# Altium schematic symbol library AD1937.SchLib: 1 symbol
Pins are listed as number, name and electrical type; pins without a type are passive.

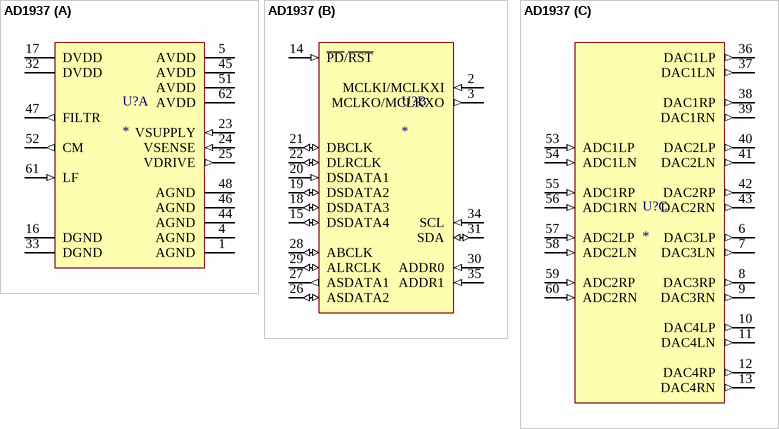
[diagram p0: symbol AD1937]

## AD1937
designator U?
AD1937; digikey: AD1937WBSTZ-ND
footprint AD1937 (Four ADCs/Eight DACs with PLL,  192 kHz, 24-Bit Codec)
part A pins: 1 AGND (power), 4 AGND (power), 5 AVDD (power), 16 DGND (power), 17 DVDD (power), 23 VSUPPLY (in), 24 VSENSE (in), 25 VDRIVE (out), 32 DVDD (power), 33 DGND (power), 44 AGND (power), 45 AVDD (power), 46 AGND (power), 47 FILTR (out), 48 AGND (power), 51 AVDD (power), 52 CM (out), 61 LF (in), 62 AVDD (power)
part B pins: 2 MCLKI/MCLKXI (in), 3 MCLKO/MCLKXO (out), 14 ~{PD}/~{RST} (in), 15 DSDATA4 (io), 18 DSDATA3 (io), 19 DSDATA2 (io), 20 DSDATA1 (in), 21 DBCLK (io), 22 DLRCLK (io), 26 ASDATA2 (io), 27 ASDATA1 (out), 28 ABCLK (io), 29 ALRCLK (io), 30 ADDR0 (in), 31 SDA (io), 34 SCL (in), 35 ADDR1 (in)
part C pins: 6 DAC3LP (out), 7 DAC3LN (out), 8 DAC3RP (out), 9 DAC3RN (out), 10 DAC4LP (out), 11 DAC4LN (out), 12 DAC4RP (out), 13 DAC4RN (out), 36 DAC1LP (out), 37 DAC1LN (out), 38 DAC1RP (out), 39 DAC1RN (out), 40 DAC2LP (out), 41 DAC2LN (out), 42 DAC2RP (out), 43 DAC2RN (out), 53 ADC1LP (in), 54 ADC1LN (in), 55 ADC1RP (in), 56 ADC1RN (in), 57 ADC2LP (in), 58 ADC2LN (in), 59 ADC2RP (in), 60 ADC2RN (in)